# EAGLE library part 61202421721 (library Wurth_Elektronik_Electromechanic_Wire_to_Board_Connectors_rev16a)
WR-BHD 2.54mm Male Angled Box Header, 24 Pins=>Code : Con_WTB_BHD_2.54_Male_THT_WS_61202421721 <http://katalog.we-online.de/media/thumbs2/eican/thb_Con_WTB_BHD_2.54_Male_THT_WS_6120xx21721_pf2.jpg> Details see: http://katalog.we-online.de/en/em/612_0xx_217_21 Created 2014-06-05, Karrer Zheng 2014 (C) Würth Elektronik
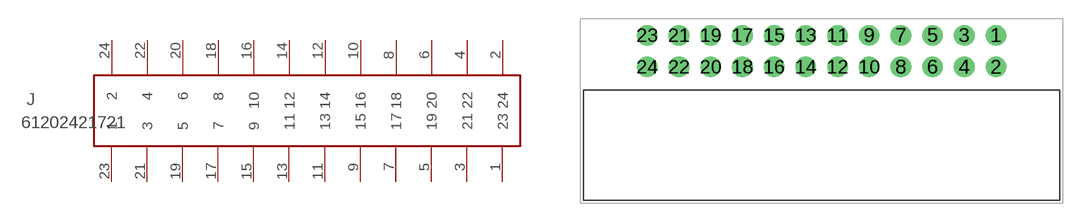
[diagram p159: symbol with the pads of 61202421721; footprint 61202421721]

Designator prefix J

## 61202421721  [61202421721]
1  23  pas
2  24  pas
3  21  pas
4  22  pas
5  19  pas
6  20  pas
7  17  pas
8  18  pas
9  15  pas
10  16  pas
11  13  pas
12  14  pas
13  11  pas
14  12  pas
15  9  pas
16  10  pas
17  7  pas
18  8  pas
19  5  pas
20  6  pas
21  3  pas
22  4  pas
23  1  pas
24  2  pas

## Footprint 61202421721 (pad centres in mm)
WR-BHD 2.54mm Male Angled Box Header, 24 Pins
drill 1.1: 1 2.54,1.27; 2 2.54,-1.27; 3 0,1.27; 4 0,-1.27; 5 -2.54,1.27; 6 -2.54,-1.27; 7 -5.08,1.27; 8 -5.08,-1.27; 9 -7.62,1.27; 10 -7.62,-1.27; 11 -10.16,1.27; 12 -10.16,-1.27; 13 -12.7,1.27; 14 -12.7,-1.27; 15 -15.24,1.27; 16 -15.24,-1.27; 17 -17.78,1.27; 18 -17.78,-1.27; 19 -20.32,1.27; 20 -20.32,-1.27; 21 -22.86,1.27; 22 -22.86,-1.27; 23 -25.4,1.27; 24 -25.4,-1.27